# Altium schematic symbol library SCH - POWER - SWITCHMODE - TI TPS65270_PWP_24.SchLib: 1 symbol
Pins are listed as number, name and electrical type; pins without a type are passive.

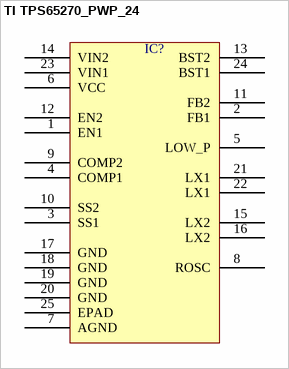
[diagram p0: symbol TI TPS65270_PWP_24]

## TI TPS65270_PWP_24
designator IC?  (value not drawn)
pins: 1 EN1, 2 FB1, 3 SS1, 4 COMP1, 5 LOW_P, 6 VCC, 7 AGND, 8 ROSC, 9 COMP2, 10 SS2, 11 FB2, 12 EN2, 13 BST2, 14 VIN2, 15 LX2, 16 LX2, 17 GND, 18 GND, 19 GND, 20 GND, 21 LX1, 22 LX1, 23 VIN1, 24 BST1, 25 EPAD